# Altium schematic symbol library Schlib1.SchLib: 6 symbols
Pins are listed as number, name and electrical type; pins without a type are passive.

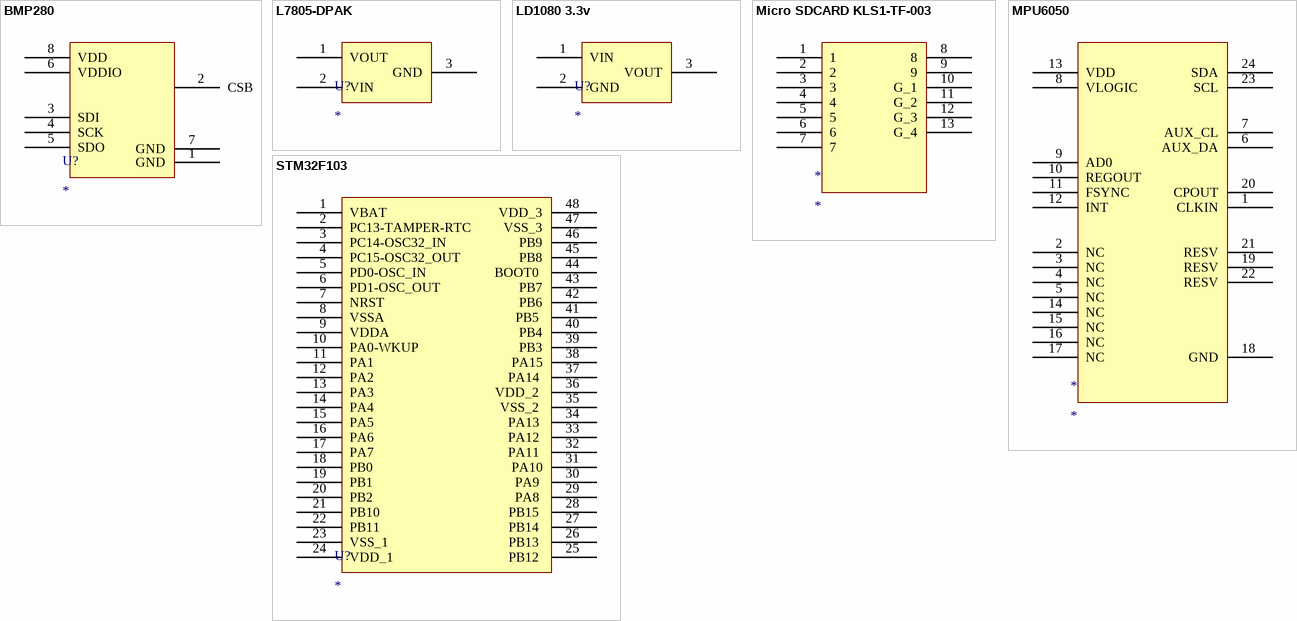
[diagram p0: symbols BMP280 to STM32F103]

## BMP280
designator U?
BMP280 SENSOR
footprint BMP280
pins: 1 GND, 2 CSB, 3 SDI, 4 SCK, 5 SDO, 6 VDDIO, 7 GND, 8 VDD

## L7805-DPAK
designator U?
L7805 5V REGULATOR SMD PACKAGE
footprint DPAK228P972X238-3N (D-PAK, 3-Pads, Body 6,20x6,66mm (max), IPC Medium Density)
pins: 1 VOUT, 2 VIN, 3 GND

## LD1080 3.3v
designator U?
LD1080 3.3V REGULATOR
footprint DPAK228P972X238-3N (D-PAK, 3-Pads, Body 6,20x6,66mm (max), IPC Medium Density)
pins: 1 VIN, 2 GND, 3 VOUT

## Micro SDCARD KLS1-TF-003
designator *
pins: 1, 2, 3, 4, 5, 6, 7, 8, 9, 10 G_1, 11 G_2, 12 G_3, 13 G_4

## MPU6050
designator *
MPU6050 SENSOR
footprint QFN50P400X400X95_HS-25N (QFN, 24-Leads, Body 4,00x4,00mm, Pitch 0,50mm, Thermal Pad 2,70x2,60mm, IPC Medium Density)
pins: 1 CLKIN, 2 NC, 3 NC, 4 NC, 5 NC, 6 AUX_DA, 7 AUX_CL, 8 VLOGIC, 9 AD0, 10 REGOUT, 11 FSYNC, 12 INT, 13 VDD, 14 NC, 15 NC, 16 NC, 17 NC, 18 GND, 19 RESV, 20 CPOUT, 21 RESV, 22 RESV, 23 SCL, 24 SDA

## STM32F103
designator U?
footprint LQFP48-STM32F103x8 (TSQFP, 48-Leads, Body 7,00x7,00mm, Pitch 0,50mm, IPC Medium Density)
pins: 1 VBAT, 2 PC13-TAMPER-RTC, 3 PC14-OSC32_IN, 4 PC15-OSC32_OUT, 5 PD0-OSC_IN, 6 PD1-OSC_OUT, 7 NRST, 8 VSSA, 9 VDDA, 10 PA0-WKUP, 11 PA1, 12 PA2, 13 PA3, 14 PA4, 15 PA5, 16 PA6, 17 PA7, 18 PB0, 19 PB1, 20 PB2, 21 PB10, 22 PB11, 23 VSS_1, 24 VDD_1, 25 PB12 , 26 PB13 , 27 PB14 , 28 PB15 , 29 PA8 , 30 PA9 , 31 PA10, 32 PA11 , 33 PA12 , 34 PA13 , 35 VSS_2 , 36 VDD_2 , 37 PA14 , 38 PA15, 39 PB3, 40 PB4, 41 PB5 , 42 PB6, 43 PB7, 44 BOOT0 , 45 PB8, 46 PB9, 47 VSS_3, 48 VDD_3